# Altium footprint library TerminalBlock_Phoenix.PcbLib: 114 footprints (part 6 of 8)
Each footprint in its own frame and in the unit in brackets; x right, y up, seen from the top. Pads: shape width x height; smd on the part's side, far side on the other; paste and mask are expansions set on the pad; w line width, h text height; cw(c..) or ccw(c..) is an arc to the next point about the centre after c.
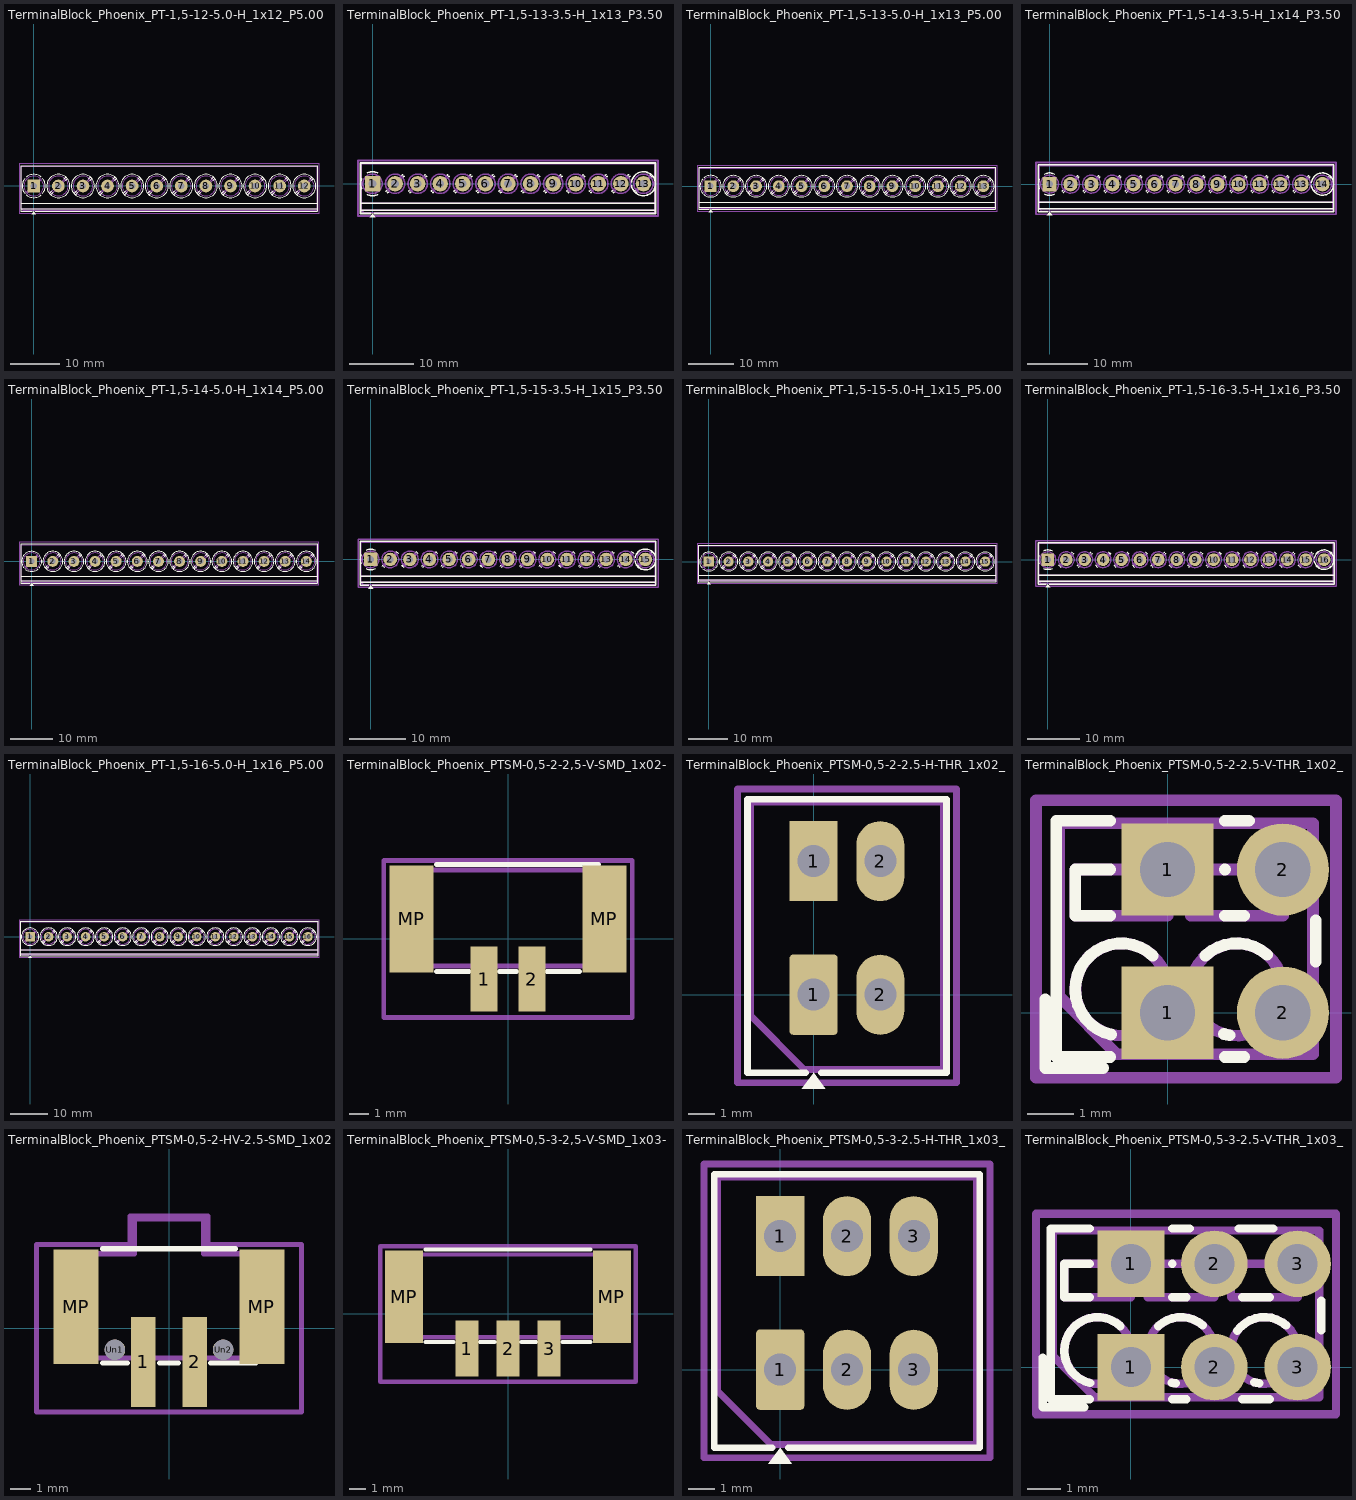
[diagram p5: the footprints below, top view; thin cyan lines are the x and y axes]

## TerminalBlock_Phoenix_PT-1,5-12-5.0-H_1x12_P5.00mm_Horizontal [mm]
pads (12):
  rrect10% 2.6x2.6 hole 1.3: 1(0,0)
  round 2.6 hole 1.3: 2(5,0) 3(10,0) 4(15,0) 5(20,0) 6(25,0) 7(30,0) 8(35,0) 9(40,0) 10(45,0) 11(50,0) 12(55,0)
F.SilkS:
  circle w0.254: c5,0 r2.36
  circle w0.254: c10,0 r2.36
  circle w0.254: c15,0 r2.36
  circle w0.254: c20,0 r2.36
  circle w0.254: c25,0 r2.36
  circle w0.254: c30,0 r2.36
  circle w0.254: c35,0 r2.36
  circle w0.254: c40,0 r2.36
  circle w0.254: c45,0 r2.36
  circle w0.254: c50,0 r2.36
  circle w0.254: c55,0 r2.36
  region: 0.44,-5.73 -0.44,-5.73 0,-5.12
  lines w0.254: -2.62,-4.6 57.62,-4.6 ; -2.62,-3.5 57.62,-3.5 ; -1.79,-1.502 -1.78,-1.491 ; -1.78,-1.55 cw(c0,0) -1.78,1.55 ; -1.55,-1.78 ccw(c0,0) 1.55,-1.78 ; -1.55,1.78 cw(c0,0) 1.55,1.78 ; -1.502,-1.79 -1.493,-1.78 ; -0.3,-5.12 -2.62,-5.12 -2.62,4.12 57.62,4.12 57.62,-5.12 0.3,-5.12 ; 1.78,-1.55 ccw(c0,0) 1.78,1.55 ; 3.21,-1.502 3.605,-1.106 ; 3.498,-1.79 3.893,-1.394 ; 6.106,1.394 6.502,1.79 ; 6.394,1.106 6.79,1.502 ; 8.21,-1.502 8.605,-1.106 ; 8.498,-1.79 8.893,-1.394 ; 11.106,1.394 11.502,1.79 ; 11.394,1.106 11.79,1.502 ; 13.21,-1.502 13.605,-1.106 ; 13.498,-1.79 13.893,-1.394 ; 16.106,1.394 16.502,1.79 ; 16.394,1.106 16.79,1.502 ; 18.21,-1.502 18.605,-1.106 ; 18.498,-1.79 18.893,-1.394 ; 21.106,1.394 21.502,1.79 ; 21.394,1.106 21.79,1.502 ; 23.21,-1.502 23.605,-1.106 ; 23.498,-1.79 23.893,-1.394 ; 26.106,1.394 26.502,1.79 ; 26.394,1.106 26.79,1.502 ; 28.21,-1.502 28.605,-1.106 ; 28.498,-1.79 28.893,-1.394 ; 31.106,1.394 31.502,1.79 ; 31.394,1.106 31.79,1.502 ; 33.21,-1.502 33.605,-1.106 ; 33.498,-1.79 33.893,-1.394 ; 36.106,1.394 36.502,1.79 ; 36.394,1.106 36.79,1.502 ; 38.21,-1.502 38.605,-1.106 ; 38.498,-1.79 38.893,-1.394 ; 41.106,1.394 41.502,1.79 ; 41.394,1.106 41.79,1.502 ; 43.21,-1.502 43.605,-1.106 ; 43.498,-1.79 43.893,-1.394 ; 46.106,1.394 46.502,1.79 ; 46.394,1.106 46.79,1.502 ; 48.21,-1.502 48.605,-1.106 ; 48.498,-1.79 48.893,-1.394 ; 51.106,1.394 51.502,1.79 ; 51.394,1.106 51.79,1.502 ; 53.21,-1.502 53.605,-1.106 ; 53.498,-1.79 53.893,-1.394 ; 56.106,1.394 56.502,1.79 ; 56.394,1.106 56.79,1.502
F.CrtYd:
  lines w0.254: -3,-5.5 -3,4.5 58,4.5 58,-5.5 -3,-5.5
F.Fab:
  circle w0.254: c0,0 r2
  circle w0.254: c5,0 r2
  circle w0.254: c10,0 r2
  circle w0.254: c15,0 r2
  circle w0.254: c20,0 r2
  circle w0.254: c25,0 r2
  circle w0.254: c30,0 r2
  circle w0.254: c35,0 r2
  circle w0.254: c40,0 r2
  circle w0.254: c45,0 r2
  circle w0.254: c50,0 r2
  circle w0.254: c55,0 r2
  lines w0.254: -2.5,-3.5 57.5,-3.5 ; -1.517,-1.272 1.273,1.517 ; -1.273,-1.517 1.517,1.273 ; 3.483,-1.272 6.273,1.517 ; 3.727,-1.517 6.517,1.273 ; 8.483,-1.272 11.273,1.517 ; 8.727,-1.517 11.517,1.273 ; 13.483,-1.272 16.273,1.517 ; 13.727,-1.517 16.517,1.273 ; 18.483,-1.272 21.273,1.517 ; 18.727,-1.517 21.517,1.273 ; 23.483,-1.272 26.273,1.517 ; 23.727,-1.517 26.517,1.273 ; 28.483,-1.272 31.273,1.517 ; 28.727,-1.517 31.517,1.273 ; 33.483,-1.272 36.273,1.517 ; 33.727,-1.517 36.517,1.273 ; 38.483,-1.272 41.273,1.517 ; 38.727,-1.517 41.517,1.273 ; 43.483,-1.272 46.273,1.517 ; 43.727,-1.517 46.517,1.273 ; 48.483,-1.272 51.273,1.517 ; 48.727,-1.517 51.517,1.273 ; 53.483,-1.272 56.273,1.517 ; 53.727,-1.517 56.517,1.273 ; 57.5,-4.6 -2.5,-4.6 ; -2.5,-4.6 -2.5,4 57.5,4 57.5,-5 -2.1,-5 -2.5,-4.6
  text "'.Designator'" at 26.061,-3.298 h1

## TerminalBlock_Phoenix_PT-1,5-13-3.5-H_1x13_P3.50mm_Horizontal [mm]
pads (13):
  rrect10% 2.4x2.4 hole 1.2: 1(0,0)
  round 2.4 hole 1.2: 2(3.5,0) 3(7,0) 4(10.5,0) 5(14,0) 6(17.5,0) 7(21,0) 8(24.5,0) 9(28,0) 10(31.5,0) 11(35,0) 12(38.5,0) 13(42,0)
F.SilkS:
  region: 0.44,-5.23 -0.44,-5.23 0,-4.62
  lines w0.254: -1.87,-4.1 43.87,-4.1 ; -1.87,-3 43.87,-3 ; -1.68,-0.798 cw(c0,0) -1.68,0.798 ; -0.798,-1.68 ccw(c0,0) 0.798,-1.68 ; -0.798,1.68 cw(c0,0) 0.798,1.68 ; -0.3,-4.62 -1.87,-4.62 -1.87,3.22 43.87,3.22 43.87,-4.62 0.3,-4.62 ; 2.089,-1.183 2.204,-1.069 ; 2.316,-1.41 2.431,-1.296 ; 4.569,1.296 4.684,1.411 ; 4.796,1.069 4.911,1.184 ; 5.589,-1.183 5.704,-1.069 ; 5.816,-1.41 5.931,-1.296 ; 8.069,1.296 8.184,1.411 ; 8.296,1.069 8.411,1.184 ; 9.089,-1.183 9.204,-1.069 ; 9.316,-1.41 9.431,-1.296 ; 11.569,1.296 11.684,1.411 ; 11.796,1.069 11.911,1.184 ; 12.589,-1.183 12.704,-1.069 ; 12.816,-1.41 12.931,-1.296 ; 15.069,1.296 15.184,1.411 ; 15.296,1.069 15.411,1.184 ; 16.089,-1.183 16.204,-1.069 ; 16.316,-1.41 16.431,-1.296 ; 18.569,1.296 18.684,1.411 ; 18.796,1.069 18.911,1.184 ; 19.589,-1.183 19.704,-1.069 ; 19.816,-1.41 19.931,-1.296 ; 22.069,1.296 22.184,1.411 ; 22.296,1.069 22.411,1.184 ; 23.089,-1.183 23.204,-1.069 ; 23.316,-1.41 23.431,-1.296 ; 25.569,1.296 25.684,1.411 ; 25.796,1.069 25.911,1.184 ; 26.589,-1.183 26.704,-1.069 ; 26.816,-1.41 26.931,-1.296 ; 29.069,1.296 29.184,1.411 ; 29.296,1.069 29.411,1.184 ; 30.089,-1.183 30.204,-1.069 ; 30.316,-1.41 30.431,-1.296 ; 32.569,1.296 32.684,1.411 ; 32.796,1.069 32.911,1.184 ; 33.589,-1.183 33.704,-1.069 ; 33.816,-1.41 33.931,-1.296 ; 36.069,1.296 36.184,1.411 ; 36.296,1.069 36.411,1.184 ; 37.089,-1.183 37.204,-1.069 ; 37.316,-1.41 37.431,-1.296 ; 39.569,1.296 39.684,1.411 ; 39.796,1.069 39.911,1.184 ; 40.159,-0.265 ccw(c42,0) 40.159,0.265 ; 40.589,-1.183 40.704,-1.069 ; 40.816,-1.41 40.931,-1.296 ; 43.069,1.296 43.184,1.411 ; 43.296,1.069 43.411,1.184
F.CrtYd:
  lines w0.254: -2.25,-5 -2.25,3.6 44.25,3.6 44.25,-5 -2.25,-5
F.Fab:
  circle w0.254: c0,0 r1.5
  circle w0.254: c3.5,0 r1.5
  circle w0.254: c7,0 r1.5
  circle w0.254: c10.5,0 r1.5
  circle w0.254: c14,0 r1.5
  circle w0.254: c17.5,0 r1.5
  circle w0.254: c21,0 r1.5
  circle w0.254: c24.5,0 r1.5
  circle w0.254: c28,0 r1.5
  circle w0.254: c31.5,0 r1.5
  circle w0.254: c35,0 r1.5
  circle w0.254: c38.5,0 r1.5
  circle w0.254: c42,0 r1.5
  lines w0.254: -1.75,-3 43.75,-3 ; -1.138,-0.954 0.955,1.138 ; -0.955,-1.137 1.138,0.954 ; 2.362,-0.954 4.455,1.138 ; 2.545,-1.137 4.638,0.954 ; 5.862,-0.954 7.955,1.138 ; 6.045,-1.137 8.138,0.954 ; 9.362,-0.954 11.455,1.138 ; 9.545,-1.137 11.638,0.954 ; 12.862,-0.954 14.955,1.138 ; 13.045,-1.137 15.138,0.954 ; 16.362,-0.954 18.455,1.138 ; 16.545,-1.137 18.638,0.954 ; 19.862,-0.954 21.955,1.138 ; 20.045,-1.137 22.138,0.954 ; 23.362,-0.954 25.455,1.138 ; 23.545,-1.137 25.638,0.954 ; 26.862,-0.954 28.955,1.138 ; 27.045,-1.137 29.138,0.954 ; 30.362,-0.954 32.455,1.138 ; 30.545,-1.137 32.638,0.954 ; 33.862,-0.954 35.955,1.138 ; 34.045,-1.137 36.138,0.954 ; 37.362,-0.954 39.455,1.138 ; 37.545,-1.137 39.638,0.954 ; 40.862,-0.954 42.955,1.138 ; 41.045,-1.137 43.138,0.954 ; 43.75,-4.1 -1.75,-4.1 ; -1.75,-4.1 -1.75,3.1 43.75,3.1 43.75,-4.5 -1.35,-4.5 -1.75,-4.1
  text "'.Designator'" at 19.561,-2.798 h1

## TerminalBlock_Phoenix_PT-1,5-13-5.0-H_1x13_P5.00mm_Horizontal [mm]
pads (13):
  rrect10% 2.6x2.6 hole 1.3: 1(0,0)
  round 2.6 hole 1.3: 2(5,0) 3(10,0) 4(15,0) 5(20,0) 6(25,0) 7(30,0) 8(35,0) 9(40,0) 10(45,0) 11(50,0) 12(55,0) 13(60,0)
F.SilkS:
  circle w0.254: c5,0 r2.36
  circle w0.254: c10,0 r2.36
  circle w0.254: c15,0 r2.36
  circle w0.254: c20,0 r2.36
  circle w0.254: c25,0 r2.36
  circle w0.254: c30,0 r2.36
  circle w0.254: c35,0 r2.36
  circle w0.254: c40,0 r2.36
  circle w0.254: c45,0 r2.36
  circle w0.254: c50,0 r2.36
  circle w0.254: c55,0 r2.36
  circle w0.254: c60,0 r2.36
  region: 0.44,-5.73 -0.44,-5.73 0,-5.12
  lines w0.254: -2.62,-4.6 62.62,-4.6 ; -2.62,-3.5 62.62,-3.5 ; -1.79,-1.502 -1.78,-1.491 ; -1.78,-1.55 cw(c0,0) -1.78,1.55 ; -1.55,-1.78 ccw(c0,0) 1.55,-1.78 ; -1.55,1.78 cw(c0,0) 1.55,1.78 ; -1.502,-1.79 -1.493,-1.78 ; -0.3,-5.12 -2.62,-5.12 -2.62,4.12 62.62,4.12 62.62,-5.12 0.3,-5.12 ; 1.78,-1.55 ccw(c0,0) 1.78,1.55 ; 3.21,-1.502 3.605,-1.106 ; 3.498,-1.79 3.893,-1.394 ; 6.106,1.394 6.502,1.79 ; 6.394,1.106 6.79,1.502 ; 8.21,-1.502 8.605,-1.106 ; 8.498,-1.79 8.893,-1.394 ; 11.106,1.394 11.502,1.79 ; 11.394,1.106 11.79,1.502 ; 13.21,-1.502 13.605,-1.106 ; 13.498,-1.79 13.893,-1.394 ; 16.106,1.394 16.502,1.79 ; 16.394,1.106 16.79,1.502 ; 18.21,-1.502 18.605,-1.106 ; 18.498,-1.79 18.893,-1.394 ; 21.106,1.394 21.502,1.79 ; 21.394,1.106 21.79,1.502 ; 23.21,-1.502 23.605,-1.106 ; 23.498,-1.79 23.893,-1.394 ; 26.106,1.394 26.502,1.79 ; 26.394,1.106 26.79,1.502 ; 28.21,-1.502 28.605,-1.106 ; 28.498,-1.79 28.893,-1.394 ; 31.106,1.394 31.502,1.79 ; 31.394,1.106 31.79,1.502 ; 33.21,-1.502 33.605,-1.106 ; 33.498,-1.79 33.893,-1.394 ; 36.106,1.394 36.502,1.79 ; 36.394,1.106 36.79,1.502 ; 38.21,-1.502 38.605,-1.106 ; 38.498,-1.79 38.893,-1.394 ; 41.106,1.394 41.502,1.79 ; 41.394,1.106 41.79,1.502 ; 43.21,-1.502 43.605,-1.106 ; 43.498,-1.79 43.893,-1.394 ; 46.106,1.394 46.502,1.79 ; 46.394,1.106 46.79,1.502 ; 48.21,-1.502 48.605,-1.106 ; 48.498,-1.79 48.893,-1.394 ; 51.106,1.394 51.502,1.79 ; 51.394,1.106 51.79,1.502 ; 53.21,-1.502 53.605,-1.106 ; 53.498,-1.79 53.893,-1.394 ; 56.106,1.394 56.502,1.79 ; 56.394,1.106 56.79,1.502 ; 58.21,-1.502 58.605,-1.106 ; 58.498,-1.79 58.893,-1.394 ; 61.106,1.394 61.502,1.79 ; 61.394,1.106 61.79,1.502
F.CrtYd:
  lines w0.254: -3,-5.5 -3,4.5 63,4.5 63,-5.5 -3,-5.5
F.Fab:
  circle w0.254: c0,0 r2
  circle w0.254: c5,0 r2
  circle w0.254: c10,0 r2
  circle w0.254: c15,0 r2
  circle w0.254: c20,0 r2
  circle w0.254: c25,0 r2
  circle w0.254: c30,0 r2
  circle w0.254: c35,0 r2
  circle w0.254: c40,0 r2
  circle w0.254: c45,0 r2
  circle w0.254: c50,0 r2
  circle w0.254: c55,0 r2
  circle w0.254: c60,0 r2
  lines w0.254: -2.5,-3.5 62.5,-3.5 ; -1.517,-1.272 1.273,1.517 ; -1.273,-1.517 1.517,1.273 ; 3.483,-1.272 6.273,1.517 ; 3.727,-1.517 6.517,1.273 ; 8.483,-1.272 11.273,1.517 ; 8.727,-1.517 11.517,1.273 ; 13.483,-1.272 16.273,1.517 ; 13.727,-1.517 16.517,1.273 ; 18.483,-1.272 21.273,1.517 ; 18.727,-1.517 21.517,1.273 ; 23.483,-1.272 26.273,1.517 ; 23.727,-1.517 26.517,1.273 ; 28.483,-1.272 31.273,1.517 ; 28.727,-1.517 31.517,1.273 ; 33.483,-1.272 36.273,1.517 ; 33.727,-1.517 36.517,1.273 ; 38.483,-1.272 41.273,1.517 ; 38.727,-1.517 41.517,1.273 ; 43.483,-1.272 46.273,1.517 ; 43.727,-1.517 46.517,1.273 ; 48.483,-1.272 51.273,1.517 ; 48.727,-1.517 51.517,1.273 ; 53.483,-1.272 56.273,1.517 ; 53.727,-1.517 56.517,1.273 ; 58.483,-1.272 61.273,1.517 ; 58.727,-1.517 61.517,1.273 ; 62.5,-4.6 -2.5,-4.6 ; -2.5,-4.6 -2.5,4 62.5,4 62.5,-5 -2.1,-5 -2.5,-4.6
  text "'.Designator'" at 28.561,-3.298 h1

## TerminalBlock_Phoenix_PT-1,5-14-3.5-H_1x14_P3.50mm_Horizontal [mm]
pads (14):
  rrect10% 2.4x2.4 hole 1.2: 1(0,0)
  round 2.4 hole 1.2: 2(3.5,0) 3(7,0) 4(10.5,0) 5(14,0) 6(17.5,0) 7(21,0) 8(24.5,0) 9(28,0) 10(31.5,0) 11(35,0) 12(38.5,0) 13(42,0) 14(45.5,0)
F.SilkS:
  region: 0.44,-5.23 -0.44,-5.23 0,-4.62
  lines w0.254: -1.87,-4.1 47.37,-4.1 ; -1.87,-3 47.37,-3 ; -1.68,-0.798 cw(c0,0) -1.68,0.798 ; -0.798,-1.68 ccw(c0,0) 0.798,-1.68 ; -0.798,1.68 cw(c0,0) 0.798,1.68 ; -0.3,-4.62 -1.87,-4.62 -1.87,3.22 47.37,3.22 47.37,-4.62 0.3,-4.62 ; 2.089,-1.183 2.204,-1.069 ; 2.316,-1.41 2.431,-1.296 ; 4.569,1.296 4.684,1.411 ; 4.796,1.069 4.911,1.184 ; 5.589,-1.183 5.704,-1.069 ; 5.816,-1.41 5.931,-1.296 ; 8.069,1.296 8.184,1.411 ; 8.296,1.069 8.411,1.184 ; 9.089,-1.183 9.204,-1.069 ; 9.316,-1.41 9.431,-1.296 ; 11.569,1.296 11.684,1.411 ; 11.796,1.069 11.911,1.184 ; 12.589,-1.183 12.704,-1.069 ; 12.816,-1.41 12.931,-1.296 ; 15.069,1.296 15.184,1.411 ; 15.296,1.069 15.411,1.184 ; 16.089,-1.183 16.204,-1.069 ; 16.316,-1.41 16.431,-1.296 ; 18.569,1.296 18.684,1.411 ; 18.796,1.069 18.911,1.184 ; 19.589,-1.183 19.704,-1.069 ; 19.816,-1.41 19.931,-1.296 ; 22.069,1.296 22.184,1.411 ; 22.296,1.069 22.411,1.184 ; 23.089,-1.183 23.204,-1.069 ; 23.316,-1.41 23.431,-1.296 ; 25.569,1.296 25.684,1.411 ; 25.796,1.069 25.911,1.184 ; 26.589,-1.183 26.704,-1.069 ; 26.816,-1.41 26.931,-1.296 ; 29.069,1.296 29.184,1.411 ; 29.296,1.069 29.411,1.184 ; 30.089,-1.183 30.204,-1.069 ; 30.316,-1.41 30.431,-1.296 ; 32.569,1.296 32.684,1.411 ; 32.796,1.069 32.911,1.184 ; 33.589,-1.183 33.704,-1.069 ; 33.816,-1.41 33.931,-1.296 ; 36.069,1.296 36.184,1.411 ; 36.296,1.069 36.411,1.184 ; 37.089,-1.183 37.204,-1.069 ; 37.316,-1.41 37.431,-1.296 ; 39.569,1.296 39.684,1.411 ; 39.796,1.069 39.911,1.184 ; 40.589,-1.183 40.704,-1.069 ; 40.816,-1.41 40.931,-1.296 ; 43.069,1.296 43.184,1.411 ; 43.296,1.069 43.411,1.184 ; 43.659,-0.265 ccw(c45.5,0) 43.659,0.265 ; 44.089,-1.183 44.204,-1.069 ; 44.316,-1.41 44.431,-1.296 ; 46.569,1.296 46.684,1.411 ; 46.796,1.069 46.911,1.184
F.CrtYd:
  lines w0.254: -2.25,-5 -2.25,3.6 47.75,3.6 47.75,-5 -2.25,-5
F.Fab:
  circle w0.254: c0,0 r1.5
  circle w0.254: c3.5,0 r1.5
  circle w0.254: c7,0 r1.5
  circle w0.254: c10.5,0 r1.5
  circle w0.254: c14,0 r1.5
  circle w0.254: c17.5,0 r1.5
  circle w0.254: c21,0 r1.5
  circle w0.254: c24.5,0 r1.5
  circle w0.254: c28,0 r1.5
  circle w0.254: c31.5,0 r1.5
  circle w0.254: c35,0 r1.5
  circle w0.254: c38.5,0 r1.5
  circle w0.254: c42,0 r1.5
  circle w0.254: c45.5,0 r1.5
  lines w0.254: -1.75,-3 47.25,-3 ; -1.138,-0.954 0.955,1.138 ; -0.955,-1.137 1.138,0.954 ; 2.362,-0.954 4.455,1.138 ; 2.545,-1.137 4.638,0.954 ; 5.862,-0.954 7.955,1.138 ; 6.045,-1.137 8.138,0.954 ; 9.362,-0.954 11.455,1.138 ; 9.545,-1.137 11.638,0.954 ; 12.862,-0.954 14.955,1.138 ; 13.045,-1.137 15.138,0.954 ; 16.362,-0.954 18.455,1.138 ; 16.545,-1.137 18.638,0.954 ; 19.862,-0.954 21.955,1.138 ; 20.045,-1.137 22.138,0.954 ; 23.362,-0.954 25.455,1.138 ; 23.545,-1.137 25.638,0.954 ; 26.862,-0.954 28.955,1.138 ; 27.045,-1.137 29.138,0.954 ; 30.362,-0.954 32.455,1.138 ; 30.545,-1.137 32.638,0.954 ; 33.862,-0.954 35.955,1.138 ; 34.045,-1.137 36.138,0.954 ; 37.362,-0.954 39.455,1.138 ; 37.545,-1.137 39.638,0.954 ; 40.862,-0.954 42.955,1.138 ; 41.045,-1.137 43.138,0.954 ; 44.362,-0.954 46.455,1.138 ; 44.545,-1.137 46.638,0.954 ; 47.25,-4.1 -1.75,-4.1 ; -1.75,-4.1 -1.75,3.1 47.25,3.1 47.25,-4.5 -1.35,-4.5 -1.75,-4.1
  text "'.Designator'" at 21.311,-2.798 h1

## TerminalBlock_Phoenix_PT-1,5-14-5.0-H_1x14_P5.00mm_Horizontal [mm]
pads (14):
  rrect10% 2.6x2.6 hole 1.3: 1(0,0)
  round 2.6 hole 1.3: 2(5,0) 3(10,0) 4(15,0) 5(20,0) 6(25,0) 7(30,0) 8(35,0) 9(40,0) 10(45,0) 11(50,0) 12(55,0) 13(60,0) 14(65,0)
F.SilkS:
  circle w0.254: c5,0 r2.36
  circle w0.254: c10,0 r2.36
  circle w0.254: c15,0 r2.36
  circle w0.254: c20,0 r2.36
  circle w0.254: c25,0 r2.36
  circle w0.254: c30,0 r2.36
  circle w0.254: c35,0 r2.36
  circle w0.254: c40,0 r2.36
  circle w0.254: c45,0 r2.36
  circle w0.254: c50,0 r2.36
  circle w0.254: c55,0 r2.36
  circle w0.254: c60,0 r2.36
  circle w0.254: c65,0 r2.36
  region: 0.44,-5.73 -0.44,-5.73 0,-5.12
  lines w0.254: -2.62,-4.6 67.62,-4.6 ; -2.62,-3.5 67.62,-3.5 ; -1.79,-1.502 -1.78,-1.491 ; -1.78,-1.55 cw(c0,0) -1.78,1.55 ; -1.55,-1.78 ccw(c0,0) 1.55,-1.78 ; -1.55,1.78 cw(c0,0) 1.55,1.78 ; -1.502,-1.79 -1.493,-1.78 ; -0.3,-5.12 -2.62,-5.12 -2.62,4.12 67.62,4.12 67.62,-5.12 0.3,-5.12 ; 1.78,-1.55 ccw(c0,0) 1.78,1.55 ; 3.21,-1.502 3.605,-1.106 ; 3.498,-1.79 3.893,-1.394 ; 6.106,1.394 6.502,1.79 ; 6.394,1.106 6.79,1.502 ; 8.21,-1.502 8.605,-1.106 ; 8.498,-1.79 8.893,-1.394 ; 11.106,1.394 11.502,1.79 ; 11.394,1.106 11.79,1.502 ; 13.21,-1.502 13.605,-1.106 ; 13.498,-1.79 13.893,-1.394 ; 16.106,1.394 16.502,1.79 ; 16.394,1.106 16.79,1.502 ; 18.21,-1.502 18.605,-1.106 ; 18.498,-1.79 18.893,-1.394 ; 21.106,1.394 21.502,1.79 ; 21.394,1.106 21.79,1.502 ; 23.21,-1.502 23.605,-1.106 ; 23.498,-1.79 23.893,-1.394 ; 26.106,1.394 26.502,1.79 ; 26.394,1.106 26.79,1.502 ; 28.21,-1.502 28.605,-1.106 ; 28.498,-1.79 28.893,-1.394 ; 31.106,1.394 31.502,1.79 ; 31.394,1.106 31.79,1.502 ; 33.21,-1.502 33.605,-1.106 ; 33.498,-1.79 33.893,-1.394 ; 36.106,1.394 36.502,1.79 ; 36.394,1.106 36.79,1.502 ; 38.21,-1.502 38.605,-1.106 ; 38.498,-1.79 38.893,-1.394 ; 41.106,1.394 41.502,1.79 ; 41.394,1.106 41.79,1.502 ; 43.21,-1.502 43.605,-1.106 ; 43.498,-1.79 43.893,-1.394 ; 46.106,1.394 46.502,1.79 ; 46.394,1.106 46.79,1.502 ; 48.21,-1.502 48.605,-1.106 ; 48.498,-1.79 48.893,-1.394 ; 51.106,1.394 51.502,1.79 ; 51.394,1.106 51.79,1.502 ; 53.21,-1.502 53.605,-1.106 ; 53.498,-1.79 53.893,-1.394 ; 56.106,1.394 56.502,1.79 ; 56.394,1.106 56.79,1.502 ; 58.21,-1.502 58.605,-1.106 ; 58.498,-1.79 58.893,-1.394 ; 61.106,1.394 61.502,1.79 ; 61.394,1.106 61.79,1.502 ; 63.21,-1.502 63.605,-1.106 ; 63.498,-1.79 63.893,-1.394 ; 66.106,1.394 66.502,1.79 ; 66.394,1.106 66.79,1.502
F.CrtYd:
  lines w0.254: -3,-5.5 -3,4.5 68,4.5 68,-5.5 -3,-5.5
F.Fab:
  circle w0.254: c0,0 r2
  circle w0.254: c5,0 r2
  circle w0.254: c10,0 r2
  circle w0.254: c15,0 r2
  circle w0.254: c20,0 r2
  circle w0.254: c25,0 r2
  circle w0.254: c30,0 r2
  circle w0.254: c35,0 r2
  circle w0.254: c40,0 r2
  circle w0.254: c45,0 r2
  circle w0.254: c50,0 r2
  circle w0.254: c55,0 r2
  circle w0.254: c60,0 r2
  circle w0.254: c65,0 r2
  lines w0.254: -2.5,-3.5 67.5,-3.5 ; -1.517,-1.272 1.273,1.517 ; -1.273,-1.517 1.517,1.273 ; 3.483,-1.272 6.273,1.517 ; 3.727,-1.517 6.517,1.273 ; 8.483,-1.272 11.273,1.517 ; 8.727,-1.517 11.517,1.273 ; 13.483,-1.272 16.273,1.517 ; 13.727,-1.517 16.517,1.273 ; 18.483,-1.272 21.273,1.517 ; 18.727,-1.517 21.517,1.273 ; 23.483,-1.272 26.273,1.517 ; 23.727,-1.517 26.517,1.273 ; 28.483,-1.272 31.273,1.517 ; 28.727,-1.517 31.517,1.273 ; 33.483,-1.272 36.273,1.517 ; 33.727,-1.517 36.517,1.273 ; 38.483,-1.272 41.273,1.517 ; 38.727,-1.517 41.517,1.273 ; 43.483,-1.272 46.273,1.517 ; 43.727,-1.517 46.517,1.273 ; 48.483,-1.272 51.273,1.517 ; 48.727,-1.517 51.517,1.273 ; 53.483,-1.272 56.273,1.517 ; 53.727,-1.517 56.517,1.273 ; 58.483,-1.272 61.273,1.517 ; 58.727,-1.517 61.517,1.273 ; 63.483,-1.272 66.273,1.517 ; 63.727,-1.517 66.517,1.273 ; 67.5,-4.6 -2.5,-4.6 ; -2.5,-4.6 -2.5,4 67.5,4 67.5,-5 -2.1,-5 -2.5,-4.6
  text "'.Designator'" at 31.061,-3.298 h1

## TerminalBlock_Phoenix_PT-1,5-15-3.5-H_1x15_P3.50mm_Horizontal [mm]
pads (15):
  rrect10% 2.4x2.4 hole 1.2: 1(0,0)
  round 2.4 hole 1.2: 2(3.5,0) 3(7,0) 4(10.5,0) 5(14,0) 6(17.5,0) 7(21,0) 8(24.5,0) 9(28,0) 10(31.5,0) 11(35,0) 12(38.5,0) 13(42,0) 14(45.5,0) 15(49,0)
F.SilkS:
  region: 0.44,-5.23 -0.44,-5.23 0,-4.62
  lines w0.254: -1.87,-4.1 50.87,-4.1 ; -1.87,-3 50.87,-3 ; -1.68,-0.798 cw(c0,0) -1.68,0.798 ; -0.798,-1.68 ccw(c0,0) 0.798,-1.68 ; -0.798,1.68 cw(c0,0) 0.798,1.68 ; -0.3,-4.62 -1.87,-4.62 -1.87,3.22 50.87,3.22 50.87,-4.62 0.3,-4.62 ; 2.089,-1.183 2.204,-1.069 ; 2.316,-1.41 2.431,-1.296 ; 4.569,1.296 4.684,1.411 ; 4.796,1.069 4.911,1.184 ; 5.589,-1.183 5.704,-1.069 ; 5.816,-1.41 5.931,-1.296 ; 8.069,1.296 8.184,1.411 ; 8.296,1.069 8.411,1.184 ; 9.089,-1.183 9.204,-1.069 ; 9.316,-1.41 9.431,-1.296 ; 11.569,1.296 11.684,1.411 ; 11.796,1.069 11.911,1.184 ; 12.589,-1.183 12.704,-1.069 ; 12.816,-1.41 12.931,-1.296 ; 15.069,1.296 15.184,1.411 ; 15.296,1.069 15.411,1.184 ; 16.089,-1.183 16.204,-1.069 ; 16.316,-1.41 16.431,-1.296 ; 18.569,1.296 18.684,1.411 ; 18.796,1.069 18.911,1.184 ; 19.589,-1.183 19.704,-1.069 ; 19.816,-1.41 19.931,-1.296 ; 22.069,1.296 22.184,1.411 ; 22.296,1.069 22.411,1.184 ; 23.089,-1.183 23.204,-1.069 ; 23.316,-1.41 23.431,-1.296 ; 25.569,1.296 25.684,1.411 ; 25.796,1.069 25.911,1.184 ; 26.589,-1.183 26.704,-1.069 ; 26.816,-1.41 26.931,-1.296 ; 29.069,1.296 29.184,1.411 ; 29.296,1.069 29.411,1.184 ; 30.089,-1.183 30.204,-1.069 ; 30.316,-1.41 30.431,-1.296 ; 32.569,1.296 32.684,1.411 ; 32.796,1.069 32.911,1.184 ; 33.589,-1.183 33.704,-1.069 ; 33.816,-1.41 33.931,-1.296 ; 36.069,1.296 36.184,1.411 ; 36.296,1.069 36.411,1.184 ; 37.089,-1.183 37.204,-1.069 ; 37.316,-1.41 37.431,-1.296 ; 39.569,1.296 39.684,1.411 ; 39.796,1.069 39.911,1.184 ; 40.589,-1.183 40.704,-1.069 ; 40.816,-1.41 40.931,-1.296 ; 43.069,1.296 43.184,1.411 ; 43.296,1.069 43.411,1.184 ; 44.089,-1.183 44.204,-1.069 ; 44.316,-1.41 44.431,-1.296 ; 46.569,1.296 46.684,1.411 ; 46.796,1.069 46.911,1.184 ; 47.159,-0.265 ccw(c49,0) 47.159,0.265 ; 47.589,-1.183 47.704,-1.069 ; 47.816,-1.41 47.931,-1.296 ; 50.069,1.296 50.184,1.411 ; 50.296,1.069 50.411,1.184
F.CrtYd:
  lines w0.254: -2.25,-5 -2.25,3.6 51.25,3.6 51.25,-5 -2.25,-5
F.Fab:
  circle w0.254: c0,0 r1.5
  circle w0.254: c3.5,0 r1.5
  circle w0.254: c7,0 r1.5
  circle w0.254: c10.5,0 r1.5
  circle w0.254: c14,0 r1.5
  circle w0.254: c17.5,0 r1.5
  circle w0.254: c21,0 r1.5
  circle w0.254: c24.5,0 r1.5
  circle w0.254: c28,0 r1.5
  circle w0.254: c31.5,0 r1.5
  circle w0.254: c35,0 r1.5
  circle w0.254: c38.5,0 r1.5
  circle w0.254: c42,0 r1.5
  circle w0.254: c45.5,0 r1.5
  circle w0.254: c49,0 r1.5
  lines w0.254: -1.75,-3 50.75,-3 ; -1.138,-0.954 0.955,1.138 ; -0.955,-1.137 1.138,0.954 ; 2.362,-0.954 4.455,1.138 ; 2.545,-1.137 4.638,0.954 ; 5.862,-0.954 7.955,1.138 ; 6.045,-1.137 8.138,0.954 ; 9.362,-0.954 11.455,1.138 ; 9.545,-1.137 11.638,0.954 ; 12.862,-0.954 14.955,1.138 ; 13.045,-1.137 15.138,0.954 ; 16.362,-0.954 18.455,1.138 ; 16.545,-1.137 18.638,0.954 ; 19.862,-0.954 21.955,1.138 ; 20.045,-1.137 22.138,0.954 ; 23.362,-0.954 25.455,1.138 ; 23.545,-1.137 25.638,0.954 ; 26.862,-0.954 28.955,1.138 ; 27.045,-1.137 29.138,0.954 ; 30.362,-0.954 32.455,1.138 ; 30.545,-1.137 32.638,0.954 ; 33.862,-0.954 35.955,1.138 ; 34.045,-1.137 36.138,0.954 ; 37.362,-0.954 39.455,1.138 ; 37.545,-1.137 39.638,0.954 ; 40.862,-0.954 42.955,1.138 ; 41.045,-1.137 43.138,0.954 ; 44.362,-0.954 46.455,1.138 ; 44.545,-1.137 46.638,0.954 ; 47.862,-0.954 49.955,1.138 ; 48.045,-1.137 50.138,0.954 ; 50.75,-4.1 -1.75,-4.1 ; -1.75,-4.1 -1.75,3.1 50.75,3.1 50.75,-4.5 -1.35,-4.5 -1.75,-4.1
  text "'.Designator'" at 23.061,-2.798 h1

## TerminalBlock_Phoenix_PT-1,5-15-5.0-H_1x15_P5.00mm_Horizontal [mm]
pads (15):
  rrect10% 2.6x2.6 hole 1.3: 1(0,0)
  round 2.6 hole 1.3: 2(5,0) 3(10,0) 4(15,0) 5(20,0) 6(25,0) 7(30,0) 8(35,0) 9(40,0) 10(45,0) 11(50,0) 12(55,0) 13(60,0) 14(65,0) 15(70,0)
F.SilkS:
  circle w0.254: c5,0 r2.36
  circle w0.254: c10,0 r2.36
  circle w0.254: c15,0 r2.36
  circle w0.254: c20,0 r2.36
  circle w0.254: c25,0 r2.36
  circle w0.254: c30,0 r2.36
  circle w0.254: c35,0 r2.36
  circle w0.254: c40,0 r2.36
  circle w0.254: c45,0 r2.36
  circle w0.254: c50,0 r2.36
  circle w0.254: c55,0 r2.36
  circle w0.254: c60,0 r2.36
  circle w0.254: c65,0 r2.36
  circle w0.254: c70,0 r2.36
  region: 0.44,-5.73 -0.44,-5.73 0,-5.12
  lines w0.254: -2.62,-4.6 72.62,-4.6 ; -2.62,-3.5 72.62,-3.5 ; -1.79,-1.502 -1.78,-1.491 ; -1.78,-1.55 cw(c0,0) -1.78,1.55 ; -1.55,-1.78 ccw(c0,0) 1.55,-1.78 ; -1.55,1.78 cw(c0,0) 1.55,1.78 ; -1.502,-1.79 -1.493,-1.78 ; -0.3,-5.12 -2.62,-5.12 -2.62,4.12 72.62,4.12 72.62,-5.12 0.3,-5.12 ; 1.78,-1.55 ccw(c0,0) 1.78,1.55 ; 3.21,-1.502 3.605,-1.106 ; 3.498,-1.79 3.893,-1.394 ; 6.106,1.394 6.502,1.79 ; 6.394,1.106 6.79,1.502 ; 8.21,-1.502 8.605,-1.106 ; 8.498,-1.79 8.893,-1.394 ; 11.106,1.394 11.502,1.79 ; 11.394,1.106 11.79,1.502 ; 13.21,-1.502 13.605,-1.106 ; 13.498,-1.79 13.893,-1.394 ; 16.106,1.394 16.502,1.79 ; 16.394,1.106 16.79,1.502 ; 18.21,-1.502 18.605,-1.106 ; 18.498,-1.79 18.893,-1.394 ; 21.106,1.394 21.502,1.79 ; 21.394,1.106 21.79,1.502 ; 23.21,-1.502 23.605,-1.106 ; 23.498,-1.79 23.893,-1.394 ; 26.106,1.394 26.502,1.79 ; 26.394,1.106 26.79,1.502 ; 28.21,-1.502 28.605,-1.106 ; 28.498,-1.79 28.893,-1.394 ; 31.106,1.394 31.502,1.79 ; 31.394,1.106 31.79,1.502 ; 33.21,-1.502 33.605,-1.106 ; 33.498,-1.79 33.893,-1.394 ; 36.106,1.394 36.502,1.79 ; 36.394,1.106 36.79,1.502 ; 38.21,-1.502 38.605,-1.106 ; 38.498,-1.79 38.893,-1.394 ; 41.106,1.394 41.502,1.79 ; 41.394,1.106 41.79,1.502 ; 43.21,-1.502 43.605,-1.106 ; 43.498,-1.79 43.893,-1.394 ; 46.106,1.394 46.502,1.79 ; 46.394,1.106 46.79,1.502 ; 48.21,-1.502 48.605,-1.106 ; 48.498,-1.79 48.893,-1.394 ; 51.106,1.394 51.502,1.79 ; 51.394,1.106 51.79,1.502 ; 53.21,-1.502 53.605,-1.106 ; 53.498,-1.79 53.893,-1.394 ; 56.106,1.394 56.502,1.79 ; 56.394,1.106 56.79,1.502 ; 58.21,-1.502 58.605,-1.106 ; 58.498,-1.79 58.893,-1.394 ; 61.106,1.394 61.502,1.79 ; 61.394,1.106 61.79,1.502 ; 63.21,-1.502 63.605,-1.106 ; 63.498,-1.79 63.893,-1.394 ; 66.106,1.394 66.502,1.79 ; 66.394,1.106 66.79,1.502 ; 68.21,-1.502 68.605,-1.106 ; 68.498,-1.79 68.893,-1.394 ; 71.106,1.394 71.502,1.79 ; 71.394,1.106 71.79,1.502
F.CrtYd:
  lines w0.254: -3,-5.5 -3,4.5 73,4.5 73,-5.5 -3,-5.5
F.Fab:
  circle w0.254: c0,0 r2
  circle w0.254: c5,0 r2
  circle w0.254: c10,0 r2
  circle w0.254: c15,0 r2
  circle w0.254: c20,0 r2
  circle w0.254: c25,0 r2
  circle w0.254: c30,0 r2
  circle w0.254: c35,0 r2
  circle w0.254: c40,0 r2
  circle w0.254: c45,0 r2
  circle w0.254: c50,0 r2
  circle w0.254: c55,0 r2
  circle w0.254: c60,0 r2
  circle w0.254: c65,0 r2
  circle w0.254: c70,0 r2
  lines w0.254: -2.5,-3.5 72.5,-3.5 ; -1.517,-1.272 1.273,1.517 ; -1.273,-1.517 1.517,1.273 ; 3.483,-1.272 6.273,1.517 ; 3.727,-1.517 6.517,1.273 ; 8.483,-1.272 11.273,1.517 ; 8.727,-1.517 11.517,1.273 ; 13.483,-1.272 16.273,1.517 ; 13.727,-1.517 16.517,1.273 ; 18.483,-1.272 21.273,1.517 ; 18.727,-1.517 21.517,1.273 ; 23.483,-1.272 26.273,1.517 ; 23.727,-1.517 26.517,1.273 ; 28.483,-1.272 31.273,1.517 ; 28.727,-1.517 31.517,1.273 ; 33.483,-1.272 36.273,1.517 ; 33.727,-1.517 36.517,1.273 ; 38.483,-1.272 41.273,1.517 ; 38.727,-1.517 41.517,1.273 ; 43.483,-1.272 46.273,1.517 ; 43.727,-1.517 46.517,1.273 ; 48.483,-1.272 51.273,1.517 ; 48.727,-1.517 51.517,1.273 ; 53.483,-1.272 56.273,1.517 ; 53.727,-1.517 56.517,1.273 ; 58.483,-1.272 61.273,1.517 ; 58.727,-1.517 61.517,1.273 ; 63.483,-1.272 66.273,1.517 ; 63.727,-1.517 66.517,1.273 ; 68.483,-1.272 71.273,1.517 ; 68.727,-1.517 71.517,1.273 ; 72.5,-4.6 -2.5,-4.6 ; -2.5,-4.6 -2.5,4 72.5,4 72.5,-5 -2.1,-5 -2.5,-4.6
  text "'.Designator'" at 33.561,-3.298 h1

## TerminalBlock_Phoenix_PT-1,5-16-3.5-H_1x16_P3.50mm_Horizontal [mm]
pads (16):
  rrect10% 2.4x2.4 hole 1.2: 1(0,0)
  round 2.4 hole 1.2: 2(3.5,0) 3(7,0) 4(10.5,0) 5(14,0) 6(17.5,0) 7(21,0) 8(24.5,0) 9(28,0) 10(31.5,0) 11(35,0) 12(38.5,0) 13(42,0) 14(45.5,0) 15(49,0) 16(52.5,0)
F.SilkS:
  region: 0.44,-5.23 -0.44,-5.23 0,-4.62
  lines w0.254: -1.87,-4.1 54.37,-4.1 ; -1.87,-3 54.37,-3 ; -1.68,-0.798 cw(c0,0) -1.68,0.798 ; -0.798,-1.68 ccw(c0,0) 0.798,-1.68 ; -0.798,1.68 cw(c0,0) 0.798,1.68 ; -0.3,-4.62 -1.87,-4.62 -1.87,3.22 54.37,3.22 54.37,-4.62 0.3,-4.62 ; 2.089,-1.183 2.204,-1.069 ; 2.316,-1.41 2.431,-1.296 ; 4.569,1.296 4.684,1.411 ; 4.796,1.069 4.911,1.184 ; 5.589,-1.183 5.704,-1.069 ; 5.816,-1.41 5.931,-1.296 ; 8.069,1.296 8.184,1.411 ; 8.296,1.069 8.411,1.184 ; 9.089,-1.183 9.204,-1.069 ; 9.316,-1.41 9.431,-1.296 ; 11.569,1.296 11.684,1.411 ; 11.796,1.069 11.911,1.184 ; 12.589,-1.183 12.704,-1.069 ; 12.816,-1.41 12.931,-1.296 ; 15.069,1.296 15.184,1.411 ; 15.296,1.069 15.411,1.184 ; 16.089,-1.183 16.204,-1.069 ; 16.316,-1.41 16.431,-1.296 ; 18.569,1.296 18.684,1.411 ; 18.796,1.069 18.911,1.184 ; 19.589,-1.183 19.704,-1.069 ; 19.816,-1.41 19.931,-1.296 ; 22.069,1.296 22.184,1.411 ; 22.296,1.069 22.411,1.184 ; 23.089,-1.183 23.204,-1.069 ; 23.316,-1.41 23.431,-1.296 ; 25.569,1.296 25.684,1.411 ; 25.796,1.069 25.911,1.184 ; 26.589,-1.183 26.704,-1.069 ; 26.816,-1.41 26.931,-1.296 ; 29.069,1.296 29.184,1.411 ; 29.296,1.069 29.411,1.184 ; 30.089,-1.183 30.204,-1.069 ; 30.316,-1.41 30.431,-1.296 ; 32.569,1.296 32.684,1.411 ; 32.796,1.069 32.911,1.184 ; 33.589,-1.183 33.704,-1.069 ; 33.816,-1.41 33.931,-1.296 ; 36.069,1.296 36.184,1.411 ; 36.296,1.069 36.411,1.184 ; 37.089,-1.183 37.204,-1.069 ; 37.316,-1.41 37.431,-1.296 ; 39.569,1.296 39.684,1.411 ; 39.796,1.069 39.911,1.184 ; 40.589,-1.183 40.704,-1.069 ; 40.816,-1.41 40.931,-1.296 ; 43.069,1.296 43.184,1.411 ; 43.296,1.069 43.411,1.184 ; 44.089,-1.183 44.204,-1.069 ; 44.316,-1.41 44.431,-1.296 ; 46.569,1.296 46.684,1.411 ; 46.796,1.069 46.911,1.184 ; 47.589,-1.183 47.704,-1.069 ; 47.816,-1.41 47.931,-1.296 ; 50.069,1.296 50.184,1.411 ; 50.296,1.069 50.411,1.184 ; 50.659,-0.265 ccw(c52.5,0) 50.659,0.265 ; 51.089,-1.183 51.204,-1.069 ; 51.316,-1.41 51.431,-1.296 ; 53.569,1.296 53.684,1.411 ; 53.796,1.069 53.911,1.184
F.CrtYd:
  lines w0.254: -2.25,-5 -2.25,3.6 54.75,3.6 54.75,-5 -2.25,-5
F.Fab:
  circle w0.254: c0,0 r1.5
  circle w0.254: c3.5,0 r1.5
  circle w0.254: c7,0 r1.5
  circle w0.254: c10.5,0 r1.5
  circle w0.254: c14,0 r1.5
  circle w0.254: c17.5,0 r1.5
  circle w0.254: c21,0 r1.5
  circle w0.254: c24.5,0 r1.5
  circle w0.254: c28,0 r1.5
  circle w0.254: c31.5,0 r1.5
  circle w0.254: c35,0 r1.5
  circle w0.254: c38.5,0 r1.5
  circle w0.254: c42,0 r1.5
  circle w0.254: c45.5,0 r1.5
  circle w0.254: c49,0 r1.5
  circle w0.254: c52.5,0 r1.5
  lines w0.254: -1.75,-3 54.25,-3 ; -1.138,-0.954 0.955,1.138 ; -0.955,-1.137 1.138,0.954 ; 2.362,-0.954 4.455,1.138 ; 2.545,-1.137 4.638,0.954 ; 5.862,-0.954 7.955,1.138 ; 6.045,-1.137 8.138,0.954 ; 9.362,-0.954 11.455,1.138 ; 9.545,-1.137 11.638,0.954 ; 12.862,-0.954 14.955,1.138 ; 13.045,-1.137 15.138,0.954 ; 16.362,-0.954 18.455,1.138 ; 16.545,-1.137 18.638,0.954 ; 19.862,-0.954 21.955,1.138 ; 20.045,-1.137 22.138,0.954 ; 23.362,-0.954 25.455,1.138 ; 23.545,-1.137 25.638,0.954 ; 26.862,-0.954 28.955,1.138 ; 27.045,-1.137 29.138,0.954 ; 30.362,-0.954 32.455,1.138 ; 30.545,-1.137 32.638,0.954 ; 33.862,-0.954 35.955,1.138 ; 34.045,-1.137 36.138,0.954 ; 37.362,-0.954 39.455,1.138 ; 37.545,-1.137 39.638,0.954 ; 40.862,-0.954 42.955,1.138 ; 41.045,-1.137 43.138,0.954 ; 44.362,-0.954 46.455,1.138 ; 44.545,-1.137 46.638,0.954 ; 47.862,-0.954 49.955,1.138 ; 48.045,-1.137 50.138,0.954 ; 51.362,-0.954 53.455,1.138 ; 51.545,-1.137 53.638,0.954 ; 54.25,-4.1 -1.75,-4.1 ; -1.75,-4.1 -1.75,3.1 54.25,3.1 54.25,-4.5 -1.35,-4.5 -1.75,-4.1
  text "'.Designator'" at 24.811,-2.798 h1

## TerminalBlock_Phoenix_PT-1,5-16-5.0-H_1x16_P5.00mm_Horizontal [mm]
pads (16):
  rrect10% 2.6x2.6 hole 1.3: 1(0,0)
  round 2.6 hole 1.3: 2(5,0) 3(10,0) 4(15,0) 5(20,0) 6(25,0) 7(30,0) 8(35,0) 9(40,0) 10(45,0) 11(50,0) 12(55,0) 13(60,0) 14(65,0) 15(70,0) 16(75,0)
F.SilkS:
  circle w0.254: c5,0 r2.36
  circle w0.254: c10,0 r2.36
  circle w0.254: c15,0 r2.36
  circle w0.254: c20,0 r2.36
  circle w0.254: c25,0 r2.36
  circle w0.254: c30,0 r2.36
  circle w0.254: c35,0 r2.36
  circle w0.254: c40,0 r2.36
  circle w0.254: c45,0 r2.36
  circle w0.254: c50,0 r2.36
  circle w0.254: c55,0 r2.36
  circle w0.254: c60,0 r2.36
  circle w0.254: c65,0 r2.36
  circle w0.254: c70,0 r2.36
  circle w0.254: c75,0 r2.36
  region: 0.44,-5.73 -0.44,-5.73 0,-5.12
  lines w0.254: -2.62,-4.6 77.62,-4.6 ; -2.62,-3.5 77.62,-3.5 ; -1.79,-1.502 -1.78,-1.491 ; -1.78,-1.55 cw(c0,0) -1.78,1.55 ; -1.55,-1.78 ccw(c0,0) 1.55,-1.78 ; -1.55,1.78 cw(c0,0) 1.55,1.78 ; -1.502,-1.79 -1.493,-1.78 ; -0.3,-5.12 -2.62,-5.12 -2.62,4.12 77.62,4.12 77.62,-5.12 0.3,-5.12 ; 1.78,-1.55 ccw(c0,0) 1.78,1.55 ; 3.21,-1.502 3.605,-1.106 ; 3.498,-1.79 3.893,-1.394 ; 6.106,1.394 6.502,1.79 ; 6.394,1.106 6.79,1.502 ; 8.21,-1.502 8.605,-1.106 ; 8.498,-1.79 8.893,-1.394 ; 11.106,1.394 11.502,1.79 ; 11.394,1.106 11.79,1.502 ; 13.21,-1.502 13.605,-1.106 ; 13.498,-1.79 13.893,-1.394 ; 16.106,1.394 16.502,1.79 ; 16.394,1.106 16.79,1.502 ; 18.21,-1.502 18.605,-1.106 ; 18.498,-1.79 18.893,-1.394 ; 21.106,1.394 21.502,1.79 ; 21.394,1.106 21.79,1.502 ; 23.21,-1.502 23.605,-1.106 ; 23.498,-1.79 23.893,-1.394 ; 26.106,1.394 26.502,1.79 ; 26.394,1.106 26.79,1.502 ; 28.21,-1.502 28.605,-1.106 ; 28.498,-1.79 28.893,-1.394 ; 31.106,1.394 31.502,1.79 ; 31.394,1.106 31.79,1.502 ; 33.21,-1.502 33.605,-1.106 ; 33.498,-1.79 33.893,-1.394 ; 36.106,1.394 36.502,1.79 ; 36.394,1.106 36.79,1.502 ; 38.21,-1.502 38.605,-1.106 ; 38.498,-1.79 38.893,-1.394 ; 41.106,1.394 41.502,1.79 ; 41.394,1.106 41.79,1.502 ; 43.21,-1.502 43.605,-1.106 ; 43.498,-1.79 43.893,-1.394 ; 46.106,1.394 46.502,1.79 ; 46.394,1.106 46.79,1.502 ; 48.21,-1.502 48.605,-1.106 ; 48.498,-1.79 48.893,-1.394 ; 51.106,1.394 51.502,1.79 ; 51.394,1.106 51.79,1.502 ; 53.21,-1.502 53.605,-1.106 ; 53.498,-1.79 53.893,-1.394 ; 56.106,1.394 56.502,1.79 ; 56.394,1.106 56.79,1.502 ; 58.21,-1.502 58.605,-1.106 ; 58.498,-1.79 58.893,-1.394 ; 61.106,1.394 61.502,1.79 ; 61.394,1.106 61.79,1.502 ; 63.21,-1.502 63.605,-1.106 ; 63.498,-1.79 63.893,-1.394 ; 66.106,1.394 66.502,1.79 ; 66.394,1.106 66.79,1.502 ; 68.21,-1.502 68.605,-1.106 ; 68.498,-1.79 68.893,-1.394 ; 71.106,1.394 71.502,1.79 ; 71.394,1.106 71.79,1.502 ; 73.21,-1.502 73.605,-1.106 ; 73.498,-1.79 73.893,-1.394 ; 76.106,1.394 76.502,1.79 ; 76.394,1.106 76.79,1.502
F.CrtYd:
  lines w0.254: -3,-5.5 -3,4.5 78,4.5 78,-5.5 -3,-5.5
F.Fab:
  circle w0.254: c0,0 r2
  circle w0.254: c5,0 r2
  circle w0.254: c10,0 r2
  circle w0.254: c15,0 r2
  circle w0.254: c20,0 r2
  circle w0.254: c25,0 r2
  circle w0.254: c30,0 r2
  circle w0.254: c35,0 r2
  circle w0.254: c40,0 r2
  circle w0.254: c45,0 r2
  circle w0.254: c50,0 r2
  circle w0.254: c55,0 r2
  circle w0.254: c60,0 r2
  circle w0.254: c65,0 r2
  circle w0.254: c70,0 r2
  circle w0.254: c75,0 r2
  lines w0.254: -2.5,-3.5 77.5,-3.5 ; -1.517,-1.272 1.273,1.517 ; -1.273,-1.517 1.517,1.273 ; 3.483,-1.272 6.273,1.517 ; 3.727,-1.517 6.517,1.273 ; 8.483,-1.272 11.273,1.517 ; 8.727,-1.517 11.517,1.273 ; 13.483,-1.272 16.273,1.517 ; 13.727,-1.517 16.517,1.273 ; 18.483,-1.272 21.273,1.517 ; 18.727,-1.517 21.517,1.273 ; 23.483,-1.272 26.273,1.517 ; 23.727,-1.517 26.517,1.273 ; 28.483,-1.272 31.273,1.517 ; 28.727,-1.517 31.517,1.273 ; 33.483,-1.272 36.273,1.517 ; 33.727,-1.517 36.517,1.273 ; 38.483,-1.272 41.273,1.517 ; 38.727,-1.517 41.517,1.273 ; 43.483,-1.272 46.273,1.517 ; 43.727,-1.517 46.517,1.273 ; 48.483,-1.272 51.273,1.517 ; 48.727,-1.517 51.517,1.273 ; 53.483,-1.272 56.273,1.517 ; 53.727,-1.517 56.517,1.273 ; 58.483,-1.272 61.273,1.517 ; 58.727,-1.517 61.517,1.273 ; 63.483,-1.272 66.273,1.517 ; 63.727,-1.517 66.517,1.273 ; 68.483,-1.272 71.273,1.517 ; 68.727,-1.517 71.517,1.273 ; 73.483,-1.272 76.273,1.517 ; 73.727,-1.517 76.517,1.273 ; 77.5,-4.6 -2.5,-4.6 ; -2.5,-4.6 -2.5,4 77.5,4 77.5,-5 -2.1,-5 -2.5,-4.6
  text "'.Designator'" at 36.061,-3.298 h1

## TerminalBlock_Phoenix_PTSM-0,5-2-2,5-V-SMD_1x02-1MP_P2.50mm_Vertical [mm]
pads (4):
  rect 1.4x3.4 smd: 1(-1.25,-2.13) 2(1.25,-2.13)
  rect 2.3x5.6 smd: MP(-5.05,1.03) MP(5.05,1.03)
F.SilkS:
  lines w0.254: -3.75,-1.73 -2.05,-1.73 ; -3.75,3.88 4.75,3.88 ; -0.45,-1.73 0.45,-1.73 ; 2.05,-1.73 3.75,-1.73
F.CrtYd:
  lines w0.254: -6.5,-4.13 -6.5,4.08 6.5,4.08 6.5,-4.13 -6.5,-4.13
F.Fab:
  lines w0.254: -1.65,-1.43 -1.65,-3.43 -0.85,-3.43 -0.85,-1.43 ; 0.85,-1.43 0.85,-3.43 1.65,-3.43 1.65,-1.43 ; -5.05,-1.43 -5.05,3.58 5.05,3.58 5.05,-1.43 -5.05,-1.43
  text "'.Designator'" at -1.439,-0.323 h1

## TerminalBlock_Phoenix_PTSM-0,5-2-2.5-H-THR_1x02_P2.50mm_Horizontal [mm]
pads (4):
  rrect14% 1.8x3 hole 1.2: 1(0,0)
  rect 1.8x3 hole 1.2: 1(0,5)
  rrect100% 1.8x3 hole 1.2: 2(2.5,0) 2(2.5,5)
F.SilkS:
  region: 0.44,-3.53 -0.44,-3.53 0,-2.92
  lines w0.254: -0.3,-2.92 -2.47,-2.92 -2.47,7.32 4.97,7.32 4.97,-2.92 0.3,-2.92
F.CrtYd:
  lines w0.254: -2.85,-3.3 -2.85,7.7 5.35,7.7 5.35,-3.3 -2.85,-3.3
F.Fab:
  lines w0.254: -2.35,-0.8 -2.35,7.2 4.85,7.2 4.85,-2.8 -0.35,-2.8 -2.35,-0.8
  text "'.Designator'" at -0.189,1.802 h1

## TerminalBlock_Phoenix_PTSM-0,5-2-2.5-V-THR_1x02_P2.50mm_Vertical [mm]
pads (4):
  rect 2x2 hole 1.2: 1(0,0) 1(0,3.1)
  round 2 hole 1.2: 2(2.5,0) 2(2.5,3.1)
F.SilkS:
  lines w0.254: -2.65,0.29 -2.65,-1.2 -1.4,-1.2 ; -1.24,-0.961 -2.41,-0.961 -2.41,4.16 -1.24,4.16 ; -1.24,2.1 -2,2.1 -2,3.1 -1.24,3.1 ; -1.225,-0.475 cw(c-1,0.5) -0.318,1.232 ; 0.818,1.232 cw(c1.5,0.5) 2.157,1.255 ; 1.225,-0.462 ccw(c1.5,0.5) 1.344,-0.488 ; 1.24,-0.961 1.665,-0.961 ; 1.24,2.1 1.665,2.1 ; 1.24,3.1 1.245,3.1 ; 1.24,4.16 1.763,4.16 ; 3.21,1.1 3.21,2
F.CrtYd:
  lines w0.254: -2.85,-1.41 -2.85,4.6 3.65,4.6 3.65,-1.41 -2.85,-1.41
F.Fab:
  circle w0.254: c-1,0.5 r1
  circle w0.254: c1.5,0.5 r1
  lines w0.254: -2.35,0.35 -2.35,4.1 3.15,4.1 3.15,-0.9 -1.1,-0.9 -2.35,0.35 ; -2,2.1 -2,3.1 0,3.1 0,2.1 -2,2.1 ; 0.5,2.1 0.5,3.1 2.5,3.1 2.5,2.1 0.5,2.1
  text "'.Designator'" at -1.039,4.762 h1

## TerminalBlock_Phoenix_PTSM-0,5-2-HV-2.5-SMD_1x02-1MP_P2.50mm_Vertical [mm]
pads (6):
  rect 1.2x4.4 smd: 1(-1.25,-1.65) 2(1.25,-1.65)
  rect 2.2x5.6 smd: MP(-4.55,1.05) MP(4.55,1.05)
  round 1 hole 1: Un1(-2.65,-1.05) Un2(2.65,-1.05)
F.SilkS:
  lines w0.254: -3.25,-1.7 -2.05,-1.7 ; -3.25,3.9 3.25,3.9 ; -0.45,-1.7 0.45,-1.7 ; 2.05,-1.7 4.25,-1.7
F.CrtYd:
  lines w0.254: -6.5,-4.1 -6.5,4.1 -1.9,4.1 -1.9,5.5 1.9,5.5 1.9,4.1 6.5,4.1 6.5,-4.1 -6.5,-4.1
F.Fab:
  lines w0.254: -5.3,3.55 -5.3,-1.45 5.3,-1.45 5.3,3.6 ; -5.3,3.65 -1.7,3.65 -1.7,5.35 1.7,5.35 1.7,3.65 5.3,3.65 ; -1.65,-1.45 -1.65,-3.51 -0.85,-3.51 -0.85,-1.45 ; 0.85,-1.45 0.85,-3.51 1.65,-3.51 1.65,-1.45
  text "'.Designator'" at -1.439,0.522 h1

## TerminalBlock_Phoenix_PTSM-0,5-3-2,5-V-SMD_1x03-1MP_P2.50mm_Vertical [mm]
pads (5):
  rect 1.4x3.4 smd: 1(-2.5,-2.13) 2(0,-2.13) 3(2.5,-2.13)
  rect 2.3x5.6 smd: MP(-6.3,1.03) MP(6.3,1.03)
F.SilkS:
  lines w0.254: -5,-1.73 -3.3,-1.73 ; -5,3.88 5,3.88 ; -1.7,-1.73 -0.8,-1.73 ; 0.8,-1.73 1.7,-1.73 ; 3.3,-1.73 5,-1.73
F.CrtYd:
  lines w0.254: -7.75,-4.13 -7.75,4.08 7.75,4.08 7.75,-4.13 -7.75,-4.13
F.Fab:
  lines w0.254: -2.9,-1.43 -2.9,-3.43 -2.1,-3.43 -2.1,-1.43 ; -0.4,-1.43 -0.4,-3.43 0.4,-3.43 0.4,-1.43 ; 2.1,-1.43 2.1,-3.43 2.9,-3.43 2.9,-1.43 ; -6.3,-1.43 -6.3,3.58 6.3,3.58 6.3,-1.43 -6.3,-1.43
  text "'.Designator'" at -1.439,-0.323 h1

## TerminalBlock_Phoenix_PTSM-0,5-3-2.5-H-THR_1x03_P2.50mm_Horizontal [mm]
pads (6):
  rrect14% 1.8x3 hole 1.2: 1(0,0)
  rect 1.8x3 hole 1.2: 1(0,5)
  rrect100% 1.8x3 hole 1.2: 2(2.5,0) 2(2.5,5) 3(5,0) 3(5,5)
F.SilkS:
  region: 0.44,-3.53 -0.44,-3.53 0,-2.92
  lines w0.254: -0.3,-2.92 -2.47,-2.92 -2.47,7.32 7.47,7.32 7.47,-2.92 0.3,-2.92
F.CrtYd:
  lines w0.254: -2.85,-3.3 -2.85,7.7 7.85,7.7 7.85,-3.3 -2.85,-3.3
F.Fab:
  lines w0.254: -2.35,-0.8 -2.35,7.2 7.35,7.2 7.35,-2.8 -0.35,-2.8 -2.35,-0.8
  text "'.Designator'" at 1.061,1.802 h1

## TerminalBlock_Phoenix_PTSM-0,5-3-2.5-V-THR_1x03_P2.50mm_Vertical [mm]
pads (6):
  rect 2x2 hole 1.2: 1(0,0) 1(0,3.1)
  round 2 hole 1.2: 2(2.5,0) 2(2.5,3.1) 3(5,0) 3(5,3.1)
F.SilkS:
  lines w0.254: -2.65,0.29 -2.65,-1.2 -1.4,-1.2 ; -1.24,-0.961 -2.41,-0.961 -2.41,4.16 -1.24,4.16 ; -1.24,2.1 -2,2.1 -2,3.1 -1.24,3.1 ; -1.225,-0.475 cw(c-1,0.5) -0.318,1.232 ; 0.818,1.232 cw(c1.5,0.5) 2.157,1.255 ; 1.225,-0.462 ccw(c1.5,0.5) 1.344,-0.488 ; 1.24,-0.961 1.665,-0.961 ; 1.24,2.1 1.665,2.1 ; 1.24,3.1 1.245,3.1 ; 1.24,4.16 1.763,4.16 ; 3.191,1.089 cw(c4,0.5) 4.657,1.255 ; 3.238,4.16 4.263,4.16 ; 3.336,-0.961 4.165,-0.961 ; 3.336,2.1 4.165,2.1 ; 3.691,-0.452 ccw(c4,0.5) 3.844,-0.489 ; 5.71,1.1 5.71,2
F.CrtYd:
  lines w0.254: -2.85,-1.41 -2.85,4.6 6.15,4.6 6.15,-1.41 -2.85,-1.41
F.Fab:
  circle w0.254: c-1,0.5 r1
  circle w0.254: c1.5,0.5 r1
  circle w0.254: c4,0.5 r1
  lines w0.254: -2.35,0.35 -2.35,4.1 5.65,4.1 5.65,-0.9 -1.1,-0.9 -2.35,0.35 ; -2,2.1 -2,3.1 0,3.1 0,2.1 -2,2.1 ; 0.5,2.1 0.5,3.1 2.5,3.1 2.5,2.1 0.5,2.1 ; 3,2.1 3,3.1 5,3.1 5,2.1 3,2.1
  text "'.Designator'" at 0.211,4.762 h1